# Altium footprint library PMOS.PcbLib: 1 footprints
Each footprint in its own frame and in the unit in brackets; x right, y up, seen from the top. Pads: shape width x height; smd on the part's side, far side on the other; paste and mask are expansions set on the pad; w line width, h text height; cw(c..) or ccw(c..) is an arc to the next point about the centre after c.
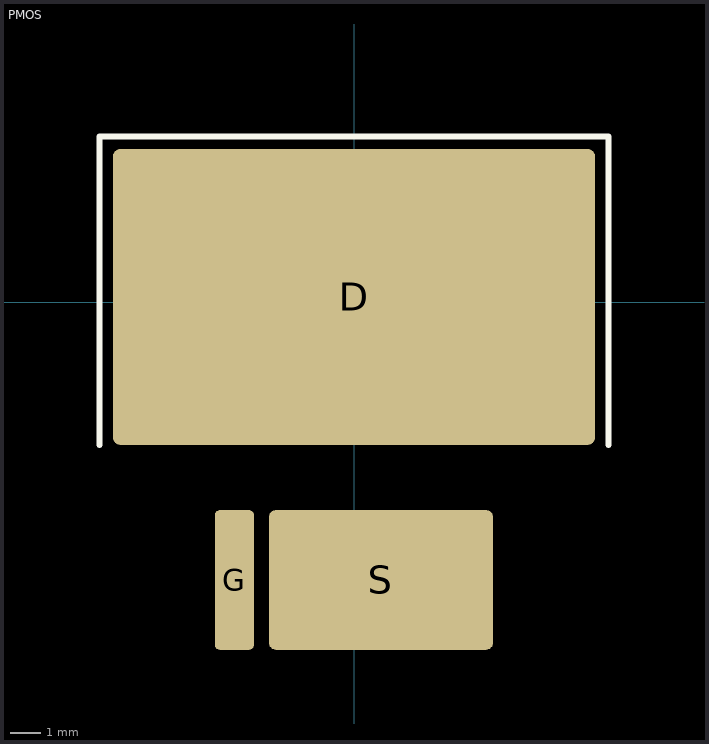
[diagram p0: the footprint, top view; thin cyan lines are the x and y axes]

## PMOS [mil]
pads (3):
  rrect5% 625x384 smd: D(0,7)
  rrect25% 51x181 smd: G(-155,-360)
  rrect10% 291x181 smd: S(35,-360)
Top Overlay:
  lines w7.87: -330,-185 -330,215 330,215 330,-185
3D body "DPAK228P991X238-3N.step": height 93.7, standoff 0, extent -197.87,-374.95 67.87,15